# EAGLE library part 7SEG-CA (library ABI)
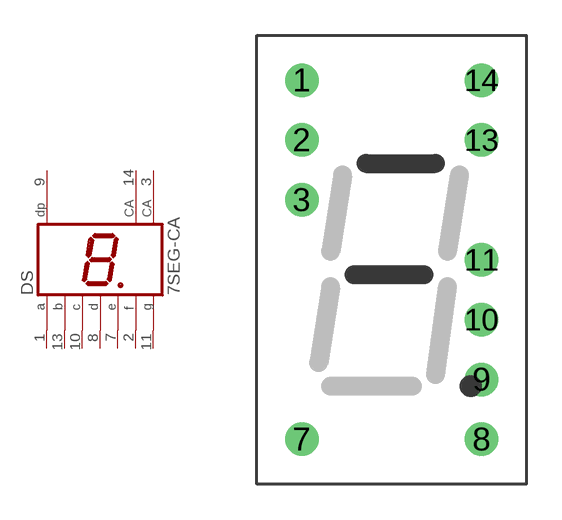
[diagram p8: symbol with the pads of LN514RA; footprint LN514RA]

Designator prefix DS

## 7SEG-CA  [LN514RA]
1  A  pas
2  F  pas
3  CA  pas
7  E  pas
8  D  pas
9  DP  pas
10  C  pas
11  G  pas
13  B  pas
14  CA  pas

## Footprint LN514RA (pad centres in mm)
drill 0.813 pad 1.422 round: 1 -2.54,7.62; 2 -2.54,5.08; 3 -2.54,2.54; 7 -2.54,-7.62; 8 5.08,-7.62; 9 5.08,-5.08; 10 5.08,-2.54; 11 5.08,0; 13 5.08,5.08; 14 5.08,7.62